# Altium integrated library TI Data Converters Digital to Analog Converter.IntLib: 1533 symbols (part 88 of 99)
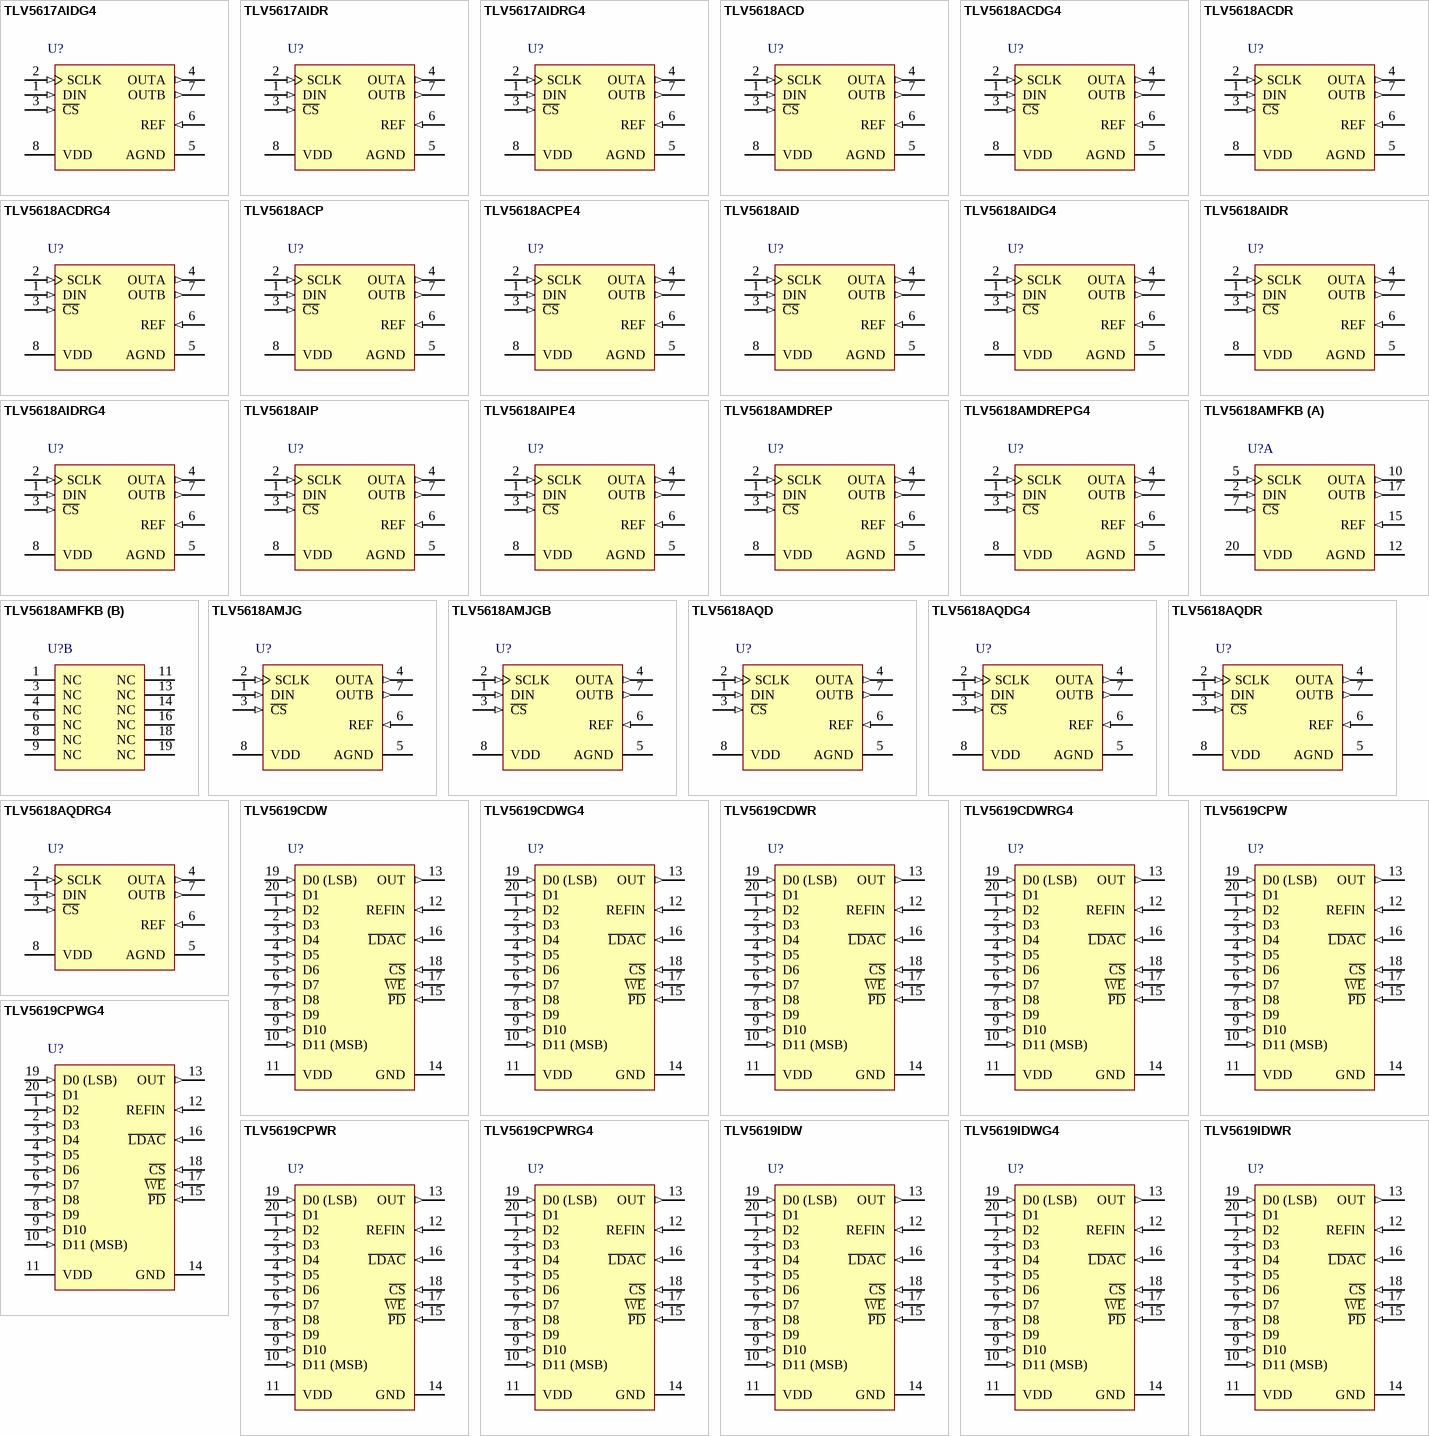
[diagram p160: symbols TLV5617AIDG4 to TLV5619IDWR]

## TLV5618AIDG4
designator U?
12-Bit, 2.5 us Dual DAC, Serial Input, Programmable Settling Time, -40 to 85 degC, 8-pin SOIC (D8), Green (RoHS & no Sb/Br); Manufacturer: Texas Instruments; PartNumber: TLV5618AIDG4; DAC Channels: 2; DNL(Max)(+/-LSB): 1; INL(Max)(+/-LSB): 4; Interface: Serial SPI; Power Consumption(Typ)(mW): 1.8; Resolution(Bits): 12; Settling Time(us): 3; SFDR(dB): 72; SNR(dB): 76; SubFamily: Precision DAC (=<10MSPS); DatasheetVersion: SLAS230H; PackageVersion: 4040047-3/M, 06/2011; PackageReference: D8; PackageDescription: 8-Pin Plastic Small Outline, Body 4.9 x 3.9 mm, Pitch 1.27 mm; Supplier 1: Digi-Key; Supplier Part Number 1: TLV5618AIDG4-ND; Supplier 2: Mouser; Supplier Part Number 2: 595-TLV5618AIDG4; Eco-Plan: Green (RoHS & no Sb/Br); Mounting Technology: Surface Mount; Code_JEDEC: MS-012; ComponentLink1Description: Manufacturer URL; ComponentLink1URL: http://www.ti.com/; ComponentLink2Description: Datasheet; ComponentLink2URL: http://www.ti.com/general/docs/lit/getliterature.tsp?genericPartNumber=TLV5618A&fileType=pdf; ComponentLink3Description: Package Specification; ComponentLink3URL: http://www.ti.com/litv/pdf/msoi002j
footprint TI-D8_N (SOIC, 8-Leads, Body 4.9x3.9mm, Pitch 1.27mm, IPC Medium Density)
footprint TI-D8_L (SOIC, 8-Leads, Body 4.9x3.9mm, Pitch 1.27mm, IPC High Density)
footprint TI-D8_M (SOIC, 8-Leads, Body 4.9x3.9mm, Pitch 1.27mm, IPC Low Density)
pins: 1 DIN (in) "Digital serial data input", 2 SCLK (in) "Digital serial clock input", 3 ~{CS} (in) "Chip select. Digital input active low, used to enable/disable inputs.", 4 OUTA (out) "DAC A analog voltage output", 5 AGND (power) "Ground", 6 REF (in) "Analog reference voltage input", 7 OUTB (out) "DAC B analog voltage output", 8 VDD (power) "Positive power supply"

## TLV5618AIDR
designator U?
12-Bit, 2.5 us Dual DAC, Serial Input, Programmable Settling Time, -40 to 85 degC, 8-pin SOIC (D8), Green (RoHS & no Sb/Br); Manufacturer: Texas Instruments; PartNumber: TLV5618AIDR; DAC Channels: 2; DNL(Max)(+/-LSB): 1; INL(Max)(+/-LSB): 4; Interface: Serial SPI; Power Consumption(Typ)(mW): 1.8; Resolution(Bits): 12; Settling Time(us): 3; SFDR(dB): 72; SNR(dB): 76; SubFamily: Precision DAC (=<10MSPS); DatasheetVersion: SLAS230H; PackageVersion: 4040047-3/M, 06/2011; PackageReference: D8; PackageDescription: 8-Pin Plastic Small Outline, Body 4.9 x 3.9 mm, Pitch 1.27 mm; Supplier 1: Digi-Key; Supplier Part Number 1: TLV5618AIDR-ND; Supplier 2: Newark; Supplier Part Number 2: 76C8919; Supplier 3: Mouser; Supplier Part Number 3: 595-TLV5618AIDR; Eco-Plan: Green (RoHS & no Sb/Br); Mounting Technology: Surface Mount; Code_JEDEC: MS-012; ComponentLink1Description: Manufacturer URL; ComponentLink1URL: http://www.ti.com/; ComponentLink2Description: Datasheet; ComponentLink2URL: http://www.ti.com/general/docs/lit/getliterature.tsp?genericPartNumber=TLV5618A&fileType=pdf; ComponentLink3Description: Package Specification; ComponentLink3URL: http://www.ti.com/litv/pdf/msoi002j
footprint TI-D8_N (SOIC, 8-Leads, Body 4.9x3.9mm, Pitch 1.27mm, IPC Medium Density)
footprint TI-D8_L (SOIC, 8-Leads, Body 4.9x3.9mm, Pitch 1.27mm, IPC High Density)
footprint TI-D8_M (SOIC, 8-Leads, Body 4.9x3.9mm, Pitch 1.27mm, IPC Low Density)
pins: 1 DIN (in) "Digital serial data input", 2 SCLK (in) "Digital serial clock input", 3 ~{CS} (in) "Chip select. Digital input active low, used to enable/disable inputs.", 4 OUTA (out) "DAC A analog voltage output", 5 AGND (power) "Ground", 6 REF (in) "Analog reference voltage input", 7 OUTB (out) "DAC B analog voltage output", 8 VDD (power) "Positive power supply"

## TLV5618AIDRG4
designator U?
12-Bit, 2.5 us Dual DAC, Serial Input, Programmable Settling Time, -40 to 85 degC, 8-pin SOIC (D8), Green (RoHS & no Sb/Br); Manufacturer: Texas Instruments; PartNumber: TLV5618AIDRG4; DAC Channels: 2; DNL(Max)(+/-LSB): 1; INL(Max)(+/-LSB): 4; Interface: Serial SPI; Power Consumption(Typ)(mW): 1.8; Resolution(Bits): 12; Settling Time(us): 3; SFDR(dB): 72; SNR(dB): 76; SubFamily: Precision DAC (=<10MSPS); DatasheetVersion: SLAS230H; PackageVersion: 4040047-3/M, 06/2011; PackageReference: D8; PackageDescription: 8-Pin Plastic Small Outline, Body 4.9 x 3.9 mm, Pitch 1.27 mm; Supplier 1: Digi-Key; Supplier Part Number 1: TLV5618AIDRG4-ND; Supplier 2: Mouser; Supplier Part Number 2: 595-TLV5618AIDRG4; Eco-Plan: Green (RoHS & no Sb/Br); Mounting Technology: Surface Mount; Code_JEDEC: MS-012; ComponentLink1Description: Manufacturer URL; ComponentLink1URL: http://www.ti.com/; ComponentLink2Description: Datasheet; ComponentLink2URL: http://www.ti.com/general/docs/lit/getliterature.tsp?genericPartNumber=TLV5618A&fileType=pdf; ComponentLink3Description: Package Specification; ComponentLink3URL: http://www.ti.com/litv/pdf/msoi002j
footprint TI-D8_N (SOIC, 8-Leads, Body 4.9x3.9mm, Pitch 1.27mm, IPC Medium Density)
footprint TI-D8_L (SOIC, 8-Leads, Body 4.9x3.9mm, Pitch 1.27mm, IPC High Density)
footprint TI-D8_M (SOIC, 8-Leads, Body 4.9x3.9mm, Pitch 1.27mm, IPC Low Density)
pins: 1 DIN (in) "Digital serial data input", 2 SCLK (in) "Digital serial clock input", 3 ~{CS} (in) "Chip select. Digital input active low, used to enable/disable inputs.", 4 OUTA (out) "DAC A analog voltage output", 5 AGND (power) "Ground", 6 REF (in) "Analog reference voltage input", 7 OUTB (out) "DAC B analog voltage output", 8 VDD (power) "Positive power supply"

## TLV5618AIP
designator U?
12-Bit, 2.5 us Dual DAC, Serial Input, Programmable Settling Time, -40 to 85 degC, 8-pin DIP (P8), Pb-Free (RoHS); Manufacturer: Texas Instruments; PartNumber: TLV5618AIP; DAC Channels: 2; DNL(Max)(+/-LSB): 1; INL(Max)(+/-LSB): 4; Interface: Serial SPI; Power Consumption(Typ)(mW): 1.8; Resolution(Bits): 12; Settling Time(us): 3; SFDR(dB): 72; SNR(dB): 76; SubFamily: Precision DAC (=<10MSPS); DatasheetVersion: SLAS230H; PackageVersion: 4040082/E, 04/2010; PackageReference: P8; PackageDescription: 8-Pin Plastic In-Line, Body 9.59 x 6.35 mm, Pitch 2.54 mm; Supplier 1: Digi-Key; Supplier Part Number 1: 296-10735-5-ND; Supplier 2: Farnell; Supplier Part Number 2: 8455678; Supplier 3: Newark; Supplier Part Number 3: 76C8920; Supplier 4: Mouser; Supplier Part Number 4: 595-TLV5618AIP; Eco-Plan: Pb-Free (RoHS); Mounting Technology: Through Hole; Code_JEDEC: MS-001; ComponentLink1Description: Manufacturer URL; ComponentLink1URL: http://www.ti.com/; ComponentLink2Description: Datasheet; ComponentLink2URL: http://www.ti.com/general/docs/lit/getliterature.tsp?genericPartNumber=TLV5618A&fileType=pdf; ComponentLink3Description: Package Specification; ComponentLink3URL: http://www.ti.com/litv/pdf/mpdi001b
footprint TI-P8 (DIP, 8-Leads, Body 9.59x6.35mm, Pitch 2.54mm)
pins: 1 DIN (in) "Digital serial data input", 2 SCLK (in) "Digital serial clock input", 3 ~{CS} (in) "Chip select. Digital input active low, used to enable/disable inputs.", 4 OUTA (out) "DAC A analog voltage output", 5 AGND (power) "Ground", 6 REF (in) "Analog reference voltage input", 7 OUTB (out) "DAC B analog voltage output", 8 VDD (power) "Positive power supply"

## TLV5618AIPE4
designator U?
12-Bit, 2.5 us Dual DAC, Serial Input, Programmable Settling Time, -40 to 85 degC, 8-pin DIP (P8), Pb-Free (RoHS); Manufacturer: Texas Instruments; PartNumber: TLV5618AIPE4; DAC Channels: 2; DNL(Max)(+/-LSB): 1; INL(Max)(+/-LSB): 4; Interface: Serial SPI; Power Consumption(Typ)(mW): 1.8; Resolution(Bits): 12; Settling Time(us): 3; SFDR(dB): 72; SNR(dB): 76; SubFamily: Precision DAC (=<10MSPS); DatasheetVersion: SLAS230H; PackageVersion: 4040082/E, 04/2010; PackageReference: P8; PackageDescription: 8-Pin Plastic In-Line, Body 9.59 x 6.35 mm, Pitch 2.54 mm; Supplier 1: Digi-Key; Supplier Part Number 1: TLV5618AIPE4-ND; Supplier 2: Mouser; Supplier Part Number 2: 595-TLV5618AIPE4; Eco-Plan: Pb-Free (RoHS); Mounting Technology: Through Hole; Code_JEDEC: MS-001; ComponentLink1Description: Manufacturer URL; ComponentLink1URL: http://www.ti.com/; ComponentLink2Description: Datasheet; ComponentLink2URL: http://www.ti.com/general/docs/lit/getliterature.tsp?genericPartNumber=TLV5618A&fileType=pdf; ComponentLink3Description: Package Specification; ComponentLink3URL: http://www.ti.com/litv/pdf/mpdi001b
footprint TI-P8 (DIP, 8-Leads, Body 9.59x6.35mm, Pitch 2.54mm)
pins: 1 DIN (in) "Digital serial data input", 2 SCLK (in) "Digital serial clock input", 3 ~{CS} (in) "Chip select. Digital input active low, used to enable/disable inputs.", 4 OUTA (out) "DAC A analog voltage output", 5 AGND (power) "Ground", 6 REF (in) "Analog reference voltage input", 7 OUTB (out) "DAC B analog voltage output", 8 VDD (power) "Positive power supply"

## TLV5618AMDREP
designator U?
Enhanced Product DAC with Power Down, -55 to 125 degC, 8-pin SOIC (D8), Green (RoHS & no Sb/Br); Manufacturer: Texas Instruments; PartNumber: TLV5618AMDREP; DAC Channels: 2; DNL(Max)(+/-LSB): 1; INL(Max)(+/-LSB): 4; Interface: Serial SPI; Power Consumption(Typ)(mW): 1.8; Resolution(Bits): 12; Settling Time(us): 3; SFDR(dB): 72; SNR(dB): 76; SubFamily: Precision DAC (=<10MSPS); DatasheetVersion: SGLS214; PackageVersion: 4040047-3/M, 06/2011; PackageReference: D8; PackageDescription: 8-Pin Plastic Small Outline, Body 4.9 x 3.9 mm, Pitch 1.27 mm; Supplier 1: Digi-Key; Supplier Part Number 1: 296-21259-2-ND; Supplier 2: Digi-Key; Supplier Part Number 2: 296-21259-1-ND; Supplier 3: Digi-Key; Supplier Part Number 3: 296-21259-6-ND; Supplier 4: Newark; Supplier Part Number 4: 46M0966; Supplier 5: Mouser; Supplier Part Number 5: 595-TLV5618AMDREP; Eco-Plan: Green (RoHS & no Sb/Br); Mounting Technology: Surface Mount; Code_JEDEC: MS-012; ComponentLink1Description: Manufacturer URL; ComponentLink1URL: http://www.ti.com/; ComponentLink2Description: Datasheet; ComponentLink2URL: http://www.ti.com/general/docs/lit/getliterature.tsp?genericPartNumber=TLV5618A-EP&fileType=pdf; ComponentLink3Description: Package Specification; ComponentLink3URL: http://www.ti.com/litv/pdf/msoi002j
footprint TI-D8_N (SOIC, 8-Leads, Body 4.9x3.9mm, Pitch 1.27mm, IPC Medium Density)
footprint TI-D8_L (SOIC, 8-Leads, Body 4.9x3.9mm, Pitch 1.27mm, IPC High Density)
footprint TI-D8_M (SOIC, 8-Leads, Body 4.9x3.9mm, Pitch 1.27mm, IPC Low Density)
pins: 1 DIN (in) "Digital serial data input", 2 SCLK (in) "Digital serial clock input", 3 ~{CS} (in) "Chip select. Digital input active low, used to enable/disable inputs.", 4 OUTA (out) "DAC A analog voltage output", 5 AGND (power) "Ground", 6 REF (in) "Analog reference voltage input", 7 OUTB (out) "DAC B analog voltage output", 8 VDD (power) "Positive power supply"

## TLV5618AMDREPG4
designator U?
Enhanced Product DAC with Power Down, -55 to 125 degC, 8-pin SOIC (D8), Green (RoHS & no Sb/Br); Manufacturer: Texas Instruments; PartNumber: TLV5618AMDREPG4; DAC Channels: 2; DNL(Max)(+/-LSB): 1; INL(Max)(+/-LSB): 4; Interface: Serial SPI; Power Consumption(Typ)(mW): 1.8; Resolution(Bits): 12; Settling Time(us): 3; SFDR(dB): 72; SNR(dB): 76; SubFamily: Precision DAC (=<10MSPS); DatasheetVersion: SGLS214; PackageVersion: 4040047-3/M, 06/2011; PackageReference: D8; PackageDescription: 8-Pin Plastic Small Outline, Body 4.9 x 3.9 mm, Pitch 1.27 mm; Supplier 1: Digi-Key; Supplier Part Number 1: TLV5618AMDREPG4-ND; Supplier 2: Mouser; Supplier Part Number 2: 595-TLV5618AMDREPG4; Eco-Plan: Green (RoHS & no Sb/Br); Mounting Technology: Surface Mount; Code_JEDEC: MS-012; ComponentLink1Description: Manufacturer URL; ComponentLink1URL: http://www.ti.com/; ComponentLink2Description: Datasheet; ComponentLink2URL: http://www.ti.com/general/docs/lit/getliterature.tsp?genericPartNumber=TLV5618A-EP&fileType=pdf; ComponentLink3Description: Package Specification; ComponentLink3URL: http://www.ti.com/litv/pdf/msoi002j
footprint TI-D8_N (SOIC, 8-Leads, Body 4.9x3.9mm, Pitch 1.27mm, IPC Medium Density)
footprint TI-D8_L (SOIC, 8-Leads, Body 4.9x3.9mm, Pitch 1.27mm, IPC High Density)
footprint TI-D8_M (SOIC, 8-Leads, Body 4.9x3.9mm, Pitch 1.27mm, IPC Low Density)
pins: 1 DIN (in) "Digital serial data input", 2 SCLK (in) "Digital serial clock input", 3 ~{CS} (in) "Chip select. Digital input active low, used to enable/disable inputs.", 4 OUTA (out) "DAC A analog voltage output", 5 AGND (power) "Ground", 6 REF (in) "Analog reference voltage input", 7 OUTB (out) "DAC B analog voltage output", 8 VDD (power) "Positive power supply"

## TLV5618AMFKB
designator U?
12-Bit, 2.5 us Dual DAC, Serial Input, Programmable Settling Time, -55 to 125 degC, 20-pin LCC (FK20); Manufacturer: Texas Instruments; PartNumber: TLV5618AMFKB; DAC Channels: 2; DNL(Max)(+/-LSB): 1; INL(Max)(+/-LSB): 4; Interface: Serial SPI; Power Consumption(Typ)(mW): 1.8; Resolution(Bits): 12; Settling Time(us): 3; SFDR(dB): 72; SNR(dB): 76; SubFamily: Precision DAC (=<10MSPS); DatasheetVersion: SLAS230H; PackageVersion: 4040140/D, 01/2011; PackageReference: FK20; PackageDescription: 20-Pin Ceramic, Metal Chip Carrier, Body 8.89 x 8.89 mm, Pitch 1.27 mm; Mounting Technology: Surface Mount; Code_JEDEC: MS-004; ComponentLink1Description: Manufacturer URL; ComponentLink1URL: http://www.ti.com/; ComponentLink2Description: Datasheet; ComponentLink2URL: http://www.ti.com/general/docs/lit/getliterature.tsp?genericPartNumber=TLV5618AM&fileType=pdf; ComponentLink3Description: Package Specification; ComponentLink3URL: http://www.ti.com/litv/pdf/mlcc006d
footprint TI-FK20_N (Leadless Chip Carrier, 20-Leads, Body 8.9x8.9mm, Pitch 1.27mm, IPC Medium Density)
footprint TI-FK20_L (Leadless Chip Carrier, 20-Leads, Body 8.9x8.9mm, Pitch 1.27mm, IPC High Density)
footprint TI-FK20_M (Leadless Chip Carrier, 20-Leads, Body 8.9x8.9mm, Pitch 1.27mm, IPC Low Density)
part A pins: 2 DIN (in) "Digital serial data input", 5 SCLK (in) "Digital serial clock input", 7 ~{CS} (in) "Chip select. Digital input active low, used to enable/disable inputs", 10 OUTA (out) "DAC A analog voltage output", 12 AGND (power) "Ground", 15 REF (in) "Analog reference voltage input", 17 OUTB (out) "DAC B analog voltage output", 20 VDD (power) "Positive power supply"
part B pins: 1 NC, 3 NC, 4 NC, 6 NC, 8 NC, 9 NC, 11 NC, 13 NC, 14 NC, 16 NC, 18 NC, 19 NC

## TLV5618AMJG
designator U?
12-Bit, 2.5 us Dual DAC, Serial Input, Programmable Settling Time, -55 to 125 degC, 8-pin DIP (JG8); Manufacturer: Texas Instruments; PartNumber: TLV5618AMJG; DAC Channels: 2; DNL(Max)(+/-LSB): 1; INL(Max)(+/-LSB): 4; Interface: Serial SPI; Power Consumption(Typ)(mW): 1.8; Resolution(Bits): 12; Settling Time(us): 3; SFDR(dB): 72; SNR(dB): 76; SubFamily: Precision DAC (=<10MSPS); DatasheetVersion: SLAS230H; PackageVersion: 4040107/C, 08/1996; PackageReference: JG8; PackageDescription: 8-Pin Ceramic, Glass In-Line, Body 9.58 x 6.665 mm, Pitch 2.54 mm; Mounting Technology: Through Hole; ComponentLink1Description: Manufacturer URL; ComponentLink1URL: http://www.ti.com/; ComponentLink2Description: Datasheet; ComponentLink2URL: http://www.ti.com/general/docs/lit/getliterature.tsp?genericPartNumber=TLV5618AM&fileType=pdf; ComponentLink3Description: Package Specification; ComponentLink3URL: http://www.ti.com/litv/pdf/mcer001a
footprint TI-JG8 (DIP, 8-Leads, Body 10.15x7.1mm, Pitch 2.54mm)
pins: 1 DIN (in) "Digital serial data input", 2 SCLK (in) "Digital serial clock input", 3 ~{CS} (in) "Chip select. Digital input active low, used to enable/disable inputs.", 4 OUTA (out) "DAC A analog voltage output", 5 AGND (power) "Ground", 6 REF (in) "Analog reference voltage input", 7 OUTB (out) "DAC B analog voltage output", 8 VDD (power) "Positive power supply"

## TLV5618AMJGB
designator U?
12-Bit, 2.5 us Dual DAC, Serial Input, Programmable Settling Time, -55 to 125 degC, 8-pin DIP (JG8); Manufacturer: Texas Instruments; PartNumber: TLV5618AMJGB; DAC Channels: 2; DNL(Max)(+/-LSB): 1; INL(Max)(+/-LSB): 4; Interface: Serial SPI; Power Consumption(Typ)(mW): 1.8; Resolution(Bits): 12; Settling Time(us): 3; SFDR(dB): 72; SNR(dB): 76; SubFamily: Precision DAC (=<10MSPS); DatasheetVersion: SLAS230H; PackageVersion: 4040107/C, 08/1996; PackageReference: JG8; PackageDescription: 8-Pin Ceramic, Glass In-Line, Body 9.58 x 6.665 mm, Pitch 2.54 mm; Mounting Technology: Through Hole; ComponentLink1Description: Manufacturer URL; ComponentLink1URL: http://www.ti.com/; ComponentLink2Description: Datasheet; ComponentLink2URL: http://www.ti.com/general/docs/lit/getliterature.tsp?genericPartNumber=TLV5618AM&fileType=pdf; ComponentLink3Description: Package Specification; ComponentLink3URL: http://www.ti.com/litv/pdf/mcer001a
footprint TI-JG8 (DIP, 8-Leads, Body 10.15x7.1mm, Pitch 2.54mm)
pins: 1 DIN (in) "Digital serial data input", 2 SCLK (in) "Digital serial clock input", 3 ~{CS} (in) "Chip select. Digital input active low, used to enable/disable inputs.", 4 OUTA (out) "DAC A analog voltage output", 5 AGND (power) "Ground", 6 REF (in) "Analog reference voltage input", 7 OUTB (out) "DAC B analog voltage output", 8 VDD (power) "Positive power supply"

## TLV5618AQD
designator U?
12-Bit, 2.5 us Dual DAC, Serial Input, Programmable Settling Time, -40 to 125 degC, 8-pin SOIC (D8), Green (RoHS & no Sb/Br); Manufacturer: Texas Instruments; PartNumber: TLV5618AQD; DAC Channels: 2; DNL(Max)(+/-LSB): 1; INL(Max)(+/-LSB): 4; Interface: Serial SPI; Power Consumption(Typ)(mW): 1.8; Resolution(Bits): 12; Settling Time(us): 3; SFDR(dB): 72; SNR(dB): 76; SubFamily: Precision DAC (=<10MSPS); DatasheetVersion: SLAS230H; PackageVersion: 4040047-3/M, 06/2011; PackageReference: D8; PackageDescription: 8-Pin Plastic Small Outline, Body 4.9 x 3.9 mm, Pitch 1.27 mm; Supplier 1: Digi-Key; Supplier Part Number 1: 296-2304-5-ND; Supplier 2: Farnell; Supplier Part Number 2: 1534702; Supplier 3: Newark; Supplier Part Number 3: 76C8921; Supplier 4: Mouser; Supplier Part Number 4: 595-TLV5618AQD; Eco-Plan: Green (RoHS & no Sb/Br); Mounting Technology: Surface Mount; Code_JEDEC: MS-012; ComponentLink1Description: Manufacturer URL; ComponentLink1URL: http://www.ti.com/; ComponentLink2Description: Datasheet; ComponentLink2URL: http://www.ti.com/general/docs/lit/getliterature.tsp?genericPartNumber=TLV5618A&fileType=pdf; ComponentLink3Description: Package Specification; ComponentLink3URL: http://www.ti.com/litv/pdf/msoi002j
footprint TI-D8_N (SOIC, 8-Leads, Body 4.9x3.9mm, Pitch 1.27mm, IPC Medium Density)
footprint TI-D8_L (SOIC, 8-Leads, Body 4.9x3.9mm, Pitch 1.27mm, IPC High Density)
footprint TI-D8_M (SOIC, 8-Leads, Body 4.9x3.9mm, Pitch 1.27mm, IPC Low Density)
pins: 1 DIN (in) "Digital serial data input", 2 SCLK (in) "Digital serial clock input", 3 ~{CS} (in) "Chip select. Digital input active low, used to enable/disable inputs.", 4 OUTA (out) "DAC A analog voltage output", 5 AGND (power) "Ground", 6 REF (in) "Analog reference voltage input", 7 OUTB (out) "DAC B analog voltage output", 8 VDD (power) "Positive power supply"

## TLV5618AQDG4
designator U?
12-Bit, 2.5 us Dual DAC, Serial Input, Programmable Settling Time, -40 to 125 degC, 8-pin SOIC (D8), Green (RoHS & no Sb/Br); Manufacturer: Texas Instruments; PartNumber: TLV5618AQDG4; DAC Channels: 2; DNL(Max)(+/-LSB): 1; INL(Max)(+/-LSB): 4; Interface: Serial SPI; Power Consumption(Typ)(mW): 1.8; Resolution(Bits): 12; Settling Time(us): 3; SFDR(dB): 72; SNR(dB): 76; SubFamily: Precision DAC (=<10MSPS); DatasheetVersion: SLAS230H; PackageVersion: 4040047-3/M, 06/2011; PackageReference: D8; PackageDescription: 8-Pin Plastic Small Outline, Body 4.9 x 3.9 mm, Pitch 1.27 mm; Supplier 1: Digi-Key; Supplier Part Number 1: 296-34494-5-ND; Supplier 2: Mouser; Supplier Part Number 2: 595-TLV5618AQDG4; Eco-Plan: Green (RoHS & no Sb/Br); Mounting Technology: Surface Mount; Code_JEDEC: MS-012; ComponentLink1Description: Manufacturer URL; ComponentLink1URL: http://www.ti.com/; ComponentLink2Description: Datasheet; ComponentLink2URL: http://www.ti.com/general/docs/lit/getliterature.tsp?genericPartNumber=TLV5618A&fileType=pdf; ComponentLink3Description: Package Specification; ComponentLink3URL: http://www.ti.com/litv/pdf/msoi002j
footprint TI-D8_N (SOIC, 8-Leads, Body 4.9x3.9mm, Pitch 1.27mm, IPC Medium Density)
footprint TI-D8_L (SOIC, 8-Leads, Body 4.9x3.9mm, Pitch 1.27mm, IPC High Density)
footprint TI-D8_M (SOIC, 8-Leads, Body 4.9x3.9mm, Pitch 1.27mm, IPC Low Density)
pins: 1 DIN (in) "Digital serial data input", 2 SCLK (in) "Digital serial clock input", 3 ~{CS} (in) "Chip select. Digital input active low, used to enable/disable inputs.", 4 OUTA (out) "DAC A analog voltage output", 5 AGND (power) "Ground", 6 REF (in) "Analog reference voltage input", 7 OUTB (out) "DAC B analog voltage output", 8 VDD (power) "Positive power supply"

## TLV5618AQDR
designator U?
12-Bit, 2.5 us Dual DAC, Serial Input, Programmable Settling Time, -40 to 125 degC, 8-pin SOIC (D8), Green (RoHS & no Sb/Br); Manufacturer: Texas Instruments; PartNumber: TLV5618AQDR; DAC Channels: 2; DNL(Max)(+/-LSB): 1; INL(Max)(+/-LSB): 4; Interface: Serial SPI; Power Consumption(Typ)(mW): 1.8; Resolution(Bits): 12; Settling Time(us): 3; SFDR(dB): 72; SNR(dB): 76; SubFamily: Precision DAC (=<10MSPS); DatasheetVersion: SLAS230H; PackageVersion: 4040047-3/M, 06/2011; PackageReference: D8; PackageDescription: 8-Pin Plastic Small Outline, Body 4.9 x 3.9 mm, Pitch 1.27 mm; Supplier 1: Digi-Key; Supplier Part Number 1: TLV5618AQDR-ND; Supplier 2: Mouser; Supplier Part Number 2: 595-TLV5618AQDR; Eco-Plan: Green (RoHS & no Sb/Br); Mounting Technology: Surface Mount; Code_JEDEC: MS-012; ComponentLink1Description: Manufacturer URL; ComponentLink1URL: http://www.ti.com/; ComponentLink2Description: Datasheet; ComponentLink2URL: http://www.ti.com/general/docs/lit/getliterature.tsp?genericPartNumber=TLV5618A&fileType=pdf; ComponentLink3Description: Package Specification; ComponentLink3URL: http://www.ti.com/litv/pdf/msoi002j
footprint TI-D8_N (SOIC, 8-Leads, Body 4.9x3.9mm, Pitch 1.27mm, IPC Medium Density)
footprint TI-D8_L (SOIC, 8-Leads, Body 4.9x3.9mm, Pitch 1.27mm, IPC High Density)
footprint TI-D8_M (SOIC, 8-Leads, Body 4.9x3.9mm, Pitch 1.27mm, IPC Low Density)
pins: 1 DIN (in) "Digital serial data input", 2 SCLK (in) "Digital serial clock input", 3 ~{CS} (in) "Chip select. Digital input active low, used to enable/disable inputs.", 4 OUTA (out) "DAC A analog voltage output", 5 AGND (power) "Ground", 6 REF (in) "Analog reference voltage input", 7 OUTB (out) "DAC B analog voltage output", 8 VDD (power) "Positive power supply"

## TLV5618AQDRG4
designator U?
12-Bit, 2.5 us Dual DAC, Serial Input, Programmable Settling Time, -40 to 125 degC, 8-pin SOIC (D8), Green (RoHS & no Sb/Br); Manufacturer: Texas Instruments; PartNumber: TLV5618AQDRG4; DAC Channels: 2; DNL(Max)(+/-LSB): 1; INL(Max)(+/-LSB): 4; Interface: Serial SPI; Power Consumption(Typ)(mW): 1.8; Resolution(Bits): 12; Settling Time(us): 3; SFDR(dB): 72; SNR(dB): 76; SubFamily: Precision DAC (=<10MSPS); DatasheetVersion: SLAS230H; PackageVersion: 4040047-3/M, 06/2011; PackageReference: D8; PackageDescription: 8-Pin Plastic Small Outline, Body 4.9 x 3.9 mm, Pitch 1.27 mm; Supplier 1: Digi-Key; Supplier Part Number 1: TLV5618AQDRG4-ND; Supplier 2: Mouser; Supplier Part Number 2: 595-TLV5618AQDRG4; Eco-Plan: Green (RoHS & no Sb/Br); Mounting Technology: Surface Mount; Code_JEDEC: MS-012; ComponentLink1Description: Manufacturer URL; ComponentLink1URL: http://www.ti.com/; ComponentLink2Description: Datasheet; ComponentLink2URL: http://www.ti.com/general/docs/lit/getliterature.tsp?genericPartNumber=TLV5618A&fileType=pdf; ComponentLink3Description: Package Specification; ComponentLink3URL: http://www.ti.com/litv/pdf/msoi002j
footprint TI-D8_N (SOIC, 8-Leads, Body 4.9x3.9mm, Pitch 1.27mm, IPC Medium Density)
footprint TI-D8_L (SOIC, 8-Leads, Body 4.9x3.9mm, Pitch 1.27mm, IPC High Density)
footprint TI-D8_M (SOIC, 8-Leads, Body 4.9x3.9mm, Pitch 1.27mm, IPC Low Density)
pins: 1 DIN (in) "Digital serial data input", 2 SCLK (in) "Digital serial clock input", 3 ~{CS} (in) "Chip select. Digital input active low, used to enable/disable inputs.", 4 OUTA (out) "DAC A analog voltage output", 5 AGND (power) "Ground", 6 REF (in) "Analog reference voltage input", 7 OUTB (out) "DAC B analog voltage output", 8 VDD (power) "Positive power supply"

## TLV5619CDW
designator U?
12-Bit, Single Channel DAC, Parallel, Voltage Out, Low Power, Asynchronous Update, 0 to 70 degC, 20-pin SOIC (DW20), Green (RoHS & no Sb/Br); Manufacturer: Texas Instruments; PartNumber: TLV5619CDW; DAC Channels: 1; INL(Max)(+/-LSB): 4; Power Consumption(Typ)(mW): 4.3; Resolution(Bits): 12; SFDR(dB): 72; SNR(dB): 78; SubFamily: Precision DAC (=<10MSPS); DatasheetVersion: SLAS172F; PackageVersion: 4040000-4/G, 01/2011; PackageReference: DW20; PackageDescription: 20-Pin Plastic Small Outline, Body 12.8 x 7.5 mm, Pitch 1.27 mm; Supplier 1: Digi-Key; Supplier Part Number 1: 296-1924-5-ND; Supplier 2: Newark; Supplier Part Number 2: 83F9165; Supplier 3: Mouser; Supplier Part Number 3: 595-TLV5619CDW; DNL(Max)(+/-LSB): 1; Eco-Plan: Green (RoHS & no Sb/Br); Interface: Parallel; Settling Time(us): 1; Mounting Technology: Surface Mount; Code_JEDEC: MO-013; ComponentLink1Description: Manufacturer URL; ComponentLink1URL: http://www.ti.com/; ComponentLink2Description: Datasheet; ComponentLink2URL: http://www.ti.com/general/docs/lit/getliterature.tsp?genericPartNumber=TLV5619&fileType=pdf; ComponentLink3Description: Package Specification; ComponentLink3URL: http://www.ti.com/lit/ml/mpds173a/mpds173a.pdf
footprint TI-DW20_N (SOIC, 20-Leads, Body 12.8x7.5mm, Pitch 1.27mm, IPC Medium Density)
footprint TI-DW20_L (SOIC, 20-Leads, Body 12.8x7.5mm, Pitch 1.27mm, IPC High Density)
footprint TI-DW20_M (SOIC, 20-Leads, Body 12.8x7.5mm, Pitch 1.27mm, IPC Low Density)
pins: 1 D2 (in) "Parallel data input", 2 D3 (in) "Parallel data input", 3 D4 (in) "Parallel data input", 4 D5 (in) "Parallel data input", 5 D6 (in) "Parallel data input", 6 D7 (in) "Parallel data input", 7 D8 (in) "Parallel data input", 8 D9 (in) "Parallel data input", 9 D10 (in) "Parallel data input", 10 D11 (MSB) (in) "Parallel data input", 11 VDD (power) "Positive power supply", 12 REFIN (in) "Voltage reference input", 13 OUT (out) "Analog output", 14 GND (power) "Ground", 15 ~{PD} (in) "When low, disables all buffer amplifier voltages to reduce supply current", 16 ~{LDAC} (in) "Load DAC", 17 ~{WE} (in) "Write enable", 18 ~{CS} (in) "Chip select", 19 D0 (LSB) (in) "Parallel data input", 20 D1 (in) "Parallel data input"

## TLV5619CDWG4
designator U?
12-Bit, Single Channel DAC, Parallel, Voltage Out, Low Power, Asynchronous Update, 0 to 70 degC, 20-pin SOIC (DW20), Green (RoHS & no Sb/Br); Manufacturer: Texas Instruments; PartNumber: TLV5619CDWG4; DAC Channels: 1; INL(Max)(+/-LSB): 4; Power Consumption(Typ)(mW): 4.3; Resolution(Bits): 12; SFDR(dB): 72; SNR(dB): 78; SubFamily: Precision DAC (=<10MSPS); DatasheetVersion: SLAS172F; PackageVersion: 4040000-4/G, 01/2011; PackageReference: DW20; PackageDescription: 20-Pin Plastic Small Outline, Body 12.8 x 7.5 mm, Pitch 1.27 mm; Supplier 1: Digi-Key; Supplier Part Number 1: TLV5619CDWG4-ND; Supplier 2: Mouser; Supplier Part Number 2: 595-TLV5619CDWG4; DNL(Max)(+/-LSB): 1; Eco-Plan: Green (RoHS & no Sb/Br); Interface: Parallel; Settling Time(us): 1; Mounting Technology: Surface Mount; Code_JEDEC: MO-013; ComponentLink1Description: Manufacturer URL; ComponentLink1URL: http://www.ti.com/; ComponentLink2Description: Datasheet; ComponentLink2URL: http://www.ti.com/general/docs/lit/getliterature.tsp?genericPartNumber=TLV5619&fileType=pdf; ComponentLink3Description: Package Specification; ComponentLink3URL: http://www.ti.com/lit/ml/mpds173a/mpds173a.pdf
footprint TI-DW20_N (SOIC, 20-Leads, Body 12.8x7.5mm, Pitch 1.27mm, IPC Medium Density)
footprint TI-DW20_L (SOIC, 20-Leads, Body 12.8x7.5mm, Pitch 1.27mm, IPC High Density)
footprint TI-DW20_M (SOIC, 20-Leads, Body 12.8x7.5mm, Pitch 1.27mm, IPC Low Density)
pins: 1 D2 (in) "Parallel data input", 2 D3 (in) "Parallel data input", 3 D4 (in) "Parallel data input", 4 D5 (in) "Parallel data input", 5 D6 (in) "Parallel data input", 6 D7 (in) "Parallel data input", 7 D8 (in) "Parallel data input", 8 D9 (in) "Parallel data input", 9 D10 (in) "Parallel data input", 10 D11 (MSB) (in) "Parallel data input", 11 VDD (power) "Positive power supply", 12 REFIN (in) "Voltage reference input", 13 OUT (out) "Analog output", 14 GND (power) "Ground", 15 ~{PD} (in) "When low, disables all buffer amplifier voltages to reduce supply current", 16 ~{LDAC} (in) "Load DAC", 17 ~{WE} (in) "Write enable", 18 ~{CS} (in) "Chip select", 19 D0 (LSB) (in) "Parallel data input", 20 D1 (in) "Parallel data input"

## TLV5619CDWR
designator U?
12-Bit, Single Channel DAC, Parallel, Voltage Out, Low Power, Asynchronous Update, 0 to 70 degC, 20-pin SOIC (DW20), Green (RoHS & no Sb/Br); Manufacturer: Texas Instruments; PartNumber: TLV5619CDWR; DAC Channels: 1; INL(Max)(+/-LSB): 4; Power Consumption(Typ)(mW): 4.3; Resolution(Bits): 12; SFDR(dB): 72; SNR(dB): 78; SubFamily: Precision DAC (=<10MSPS); DatasheetVersion: SLAS172F; PackageVersion: 4040000-4/G, 01/2011; PackageReference: DW20; PackageDescription: 20-Pin Plastic Small Outline, Body 12.8 x 7.5 mm, Pitch 1.27 mm; Supplier 1: Digi-Key; Supplier Part Number 1: TLV5619CDWR-ND; Supplier 2: Newark; Supplier Part Number 2: 76C8924; Supplier 3: Mouser; Supplier Part Number 3: 595-TLV5619CDWR; DNL(Max)(+/-LSB): 1; Eco-Plan: Green (RoHS & no Sb/Br); Interface: Parallel; Settling Time(us): 1; Mounting Technology: Surface Mount; Code_JEDEC: MO-013; ComponentLink1Description: Manufacturer URL; ComponentLink1URL: http://www.ti.com/; ComponentLink2Description: Datasheet; ComponentLink2URL: http://www.ti.com/general/docs/lit/getliterature.tsp?genericPartNumber=TLV5619&fileType=pdf; ComponentLink3Description: Package Specification; ComponentLink3URL: http://www.ti.com/lit/ml/mpds173a/mpds173a.pdf
footprint TI-DW20_N (SOIC, 20-Leads, Body 12.8x7.5mm, Pitch 1.27mm, IPC Medium Density)
footprint TI-DW20_L (SOIC, 20-Leads, Body 12.8x7.5mm, Pitch 1.27mm, IPC High Density)
footprint TI-DW20_M (SOIC, 20-Leads, Body 12.8x7.5mm, Pitch 1.27mm, IPC Low Density)
pins: 1 D2 (in) "Parallel data input", 2 D3 (in) "Parallel data input", 3 D4 (in) "Parallel data input", 4 D5 (in) "Parallel data input", 5 D6 (in) "Parallel data input", 6 D7 (in) "Parallel data input", 7 D8 (in) "Parallel data input", 8 D9 (in) "Parallel data input", 9 D10 (in) "Parallel data input", 10 D11 (MSB) (in) "Parallel data input", 11 VDD (power) "Positive power supply", 12 REFIN (in) "Voltage reference input", 13 OUT (out) "Analog output", 14 GND (power) "Ground", 15 ~{PD} (in) "When low, disables all buffer amplifier voltages to reduce supply current", 16 ~{LDAC} (in) "Load DAC", 17 ~{WE} (in) "Write enable", 18 ~{CS} (in) "Chip select", 19 D0 (LSB) (in) "Parallel data input", 20 D1 (in) "Parallel data input"

## TLV5619CDWRG4
designator U?
12-Bit, Single Channel DAC, Parallel, Voltage Out, Low Power, Asynchronous Update, 0 to 70 degC, 20-pin SOIC (DW20), Green (RoHS & no Sb/Br); Manufacturer: Texas Instruments; PartNumber: TLV5619CDWRG4; DAC Channels: 1; INL(Max)(+/-LSB): 4; Power Consumption(Typ)(mW): 4.3; Resolution(Bits): 12; SFDR(dB): 72; SNR(dB): 78; SubFamily: Precision DAC (=<10MSPS); DatasheetVersion: SLAS172F; PackageVersion: 4040000-4/G, 01/2011; PackageReference: DW20; PackageDescription: 20-Pin Plastic Small Outline, Body 12.8 x 7.5 mm, Pitch 1.27 mm; Supplier 1: Digi-Key; Supplier Part Number 1: TLV5619CDWRG4-ND; Supplier 2: Mouser; Supplier Part Number 2: 595-TLV5619CDWRG4; DNL(Max)(+/-LSB): 1; Eco-Plan: Green (RoHS & no Sb/Br); Interface: Parallel; Settling Time(us): 1; Mounting Technology: Surface Mount; Code_JEDEC: MO-013; ComponentLink1Description: Manufacturer URL; ComponentLink1URL: http://www.ti.com/; ComponentLink2Description: Datasheet; ComponentLink2URL: http://www.ti.com/general/docs/lit/getliterature.tsp?genericPartNumber=TLV5619&fileType=pdf; ComponentLink3Description: Package Specification; ComponentLink3URL: http://www.ti.com/lit/ml/mpds173a/mpds173a.pdf
footprint TI-DW20_N (SOIC, 20-Leads, Body 12.8x7.5mm, Pitch 1.27mm, IPC Medium Density)
footprint TI-DW20_L (SOIC, 20-Leads, Body 12.8x7.5mm, Pitch 1.27mm, IPC High Density)
footprint TI-DW20_M (SOIC, 20-Leads, Body 12.8x7.5mm, Pitch 1.27mm, IPC Low Density)
pins: 1 D2 (in) "Parallel data input", 2 D3 (in) "Parallel data input", 3 D4 (in) "Parallel data input", 4 D5 (in) "Parallel data input", 5 D6 (in) "Parallel data input", 6 D7 (in) "Parallel data input", 7 D8 (in) "Parallel data input", 8 D9 (in) "Parallel data input", 9 D10 (in) "Parallel data input", 10 D11 (MSB) (in) "Parallel data input", 11 VDD (power) "Positive power supply", 12 REFIN (in) "Voltage reference input", 13 OUT (out) "Analog output", 14 GND (power) "Ground", 15 ~{PD} (in) "When low, disables all buffer amplifier voltages to reduce supply current", 16 ~{LDAC} (in) "Load DAC", 17 ~{WE} (in) "Write enable", 18 ~{CS} (in) "Chip select", 19 D0 (LSB) (in) "Parallel data input", 20 D1 (in) "Parallel data input"

## TLV5619CPW
designator U?
12-Bit, Single Channel DAC, Parallel, Voltage Out, Low Power, Asynchronous Update, 0 to 70 degC, 20-pin SOP (PW20), Green (RoHS & no Sb/Br); Manufacturer: Texas Instruments; PartNumber: TLV5619CPW; DAC Channels: 1; INL(Max)(+/-LSB): 4; Power Consumption(Typ)(mW): 4.3; Resolution(Bits): 12; SFDR(dB): 72; SNR(dB): 78; SubFamily: Precision DAC (=<10MSPS); DatasheetVersion: SLAS172F; PackageVersion: 4040064-5/G, 02/2011; PackageReference: PW20; PackageDescription: 20-Pin Plastic Small Outline, Body 6.5 x 4.4 mm, Pitch 0.65 mm; Supplier 1: Digi-Key; Supplier Part Number 1: 296-1925-5-ND; Supplier 2: Mouser; Supplier Part Number 2: 595-TLV5619CPW; DNL(Max)(+/-LSB): 1; Eco-Plan: Green (RoHS & no Sb/Br); Interface: Parallel; Settling Time(us): 1; Mounting Technology: Surface Mount; Code_JEDEC: MO-153; ComponentLink1Description: Manufacturer URL; ComponentLink1URL: http://www.ti.com/; ComponentLink2Description: Datasheet; ComponentLink2URL: http://www.ti.com/general/docs/lit/getliterature.tsp?genericPartNumber=TLV5619&fileType=pdf; ComponentLink3Description: Package Specification; ComponentLink3URL: http://www.ti.com.cn/cn/lit/ml/mpds362/mpds362.pdf
footprint TI-PW20_N (SOP, 20-Leads, Body 6.5x4.4mm, Pitch 0.65mm, IPC Medium Density)
footprint TI-PW20_L (SOP, 20-Leads, Body 6.5x4.4mm, Pitch 0.65mm, IPC High Density)
footprint TI-PW20_M (SOP, 20-Leads, Body 6.5x4.4mm, Pitch 0.65mm, IPC Low Density)
pins: 1 D2 (in) "Parallel data input", 2 D3 (in) "Parallel data input", 3 D4 (in) "Parallel data input", 4 D5 (in) "Parallel data input", 5 D6 (in) "Parallel data input", 6 D7 (in) "Parallel data input", 7 D8 (in) "Parallel data input", 8 D9 (in) "Parallel data input", 9 D10 (in) "Parallel data input", 10 D11 (MSB) (in) "Parallel data input", 11 VDD (power) "Positive power supply", 12 REFIN (in) "Voltage reference input", 13 OUT (out) "Analog output", 14 GND (power) "Ground", 15 ~{PD} (in) "When low, disables all buffer amplifier voltages to reduce supply current", 16 ~{LDAC} (in) "Load DAC", 17 ~{WE} (in) "Write enable", 18 ~{CS} (in) "Chip select", 19 D0 (LSB) (in) "Parallel data input", 20 D1 (in) "Parallel data input"

## TLV5619CPWG4
designator U?
12-Bit, Single Channel DAC, Parallel, Voltage Out, Low Power, Asynchronous Update, 0 to 70 degC, 20-pin SOP (PW20), Green (RoHS & no Sb/Br); Manufacturer: Texas Instruments; PartNumber: TLV5619CPWG4; DAC Channels: 1; INL(Max)(+/-LSB): 4; Power Consumption(Typ)(mW): 4.3; Resolution(Bits): 12; SFDR(dB): 72; SNR(dB): 78; SubFamily: Precision DAC (=<10MSPS); DatasheetVersion: SLAS172F; PackageVersion: 4040064-5/G, 02/2011; PackageReference: PW20; PackageDescription: 20-Pin Plastic Small Outline, Body 6.5 x 4.4 mm, Pitch 0.65 mm; Supplier 1: Digi-Key; Supplier Part Number 1: TLV5619CPWG4-ND; Supplier 2: Mouser; Supplier Part Number 2: 595-TLV5619CPWG4; DNL(Max)(+/-LSB): 1; Eco-Plan: Green (RoHS & no Sb/Br); Interface: Parallel; Settling Time(us): 1; Mounting Technology: Surface Mount; Code_JEDEC: MO-153; ComponentLink1Description: Manufacturer URL; ComponentLink1URL: http://www.ti.com/; ComponentLink2Description: Datasheet; ComponentLink2URL: http://www.ti.com/general/docs/lit/getliterature.tsp?genericPartNumber=TLV5619&fileType=pdf; ComponentLink3Description: Package Specification; ComponentLink3URL: http://www.ti.com.cn/cn/lit/ml/mpds362/mpds362.pdf
footprint TI-PW20_N (SOP, 20-Leads, Body 6.5x4.4mm, Pitch 0.65mm, IPC Medium Density)
footprint TI-PW20_L (SOP, 20-Leads, Body 6.5x4.4mm, Pitch 0.65mm, IPC High Density)
footprint TI-PW20_M (SOP, 20-Leads, Body 6.5x4.4mm, Pitch 0.65mm, IPC Low Density)
pins: 1 D2 (in) "Parallel data input", 2 D3 (in) "Parallel data input", 3 D4 (in) "Parallel data input", 4 D5 (in) "Parallel data input", 5 D6 (in) "Parallel data input", 6 D7 (in) "Parallel data input", 7 D8 (in) "Parallel data input", 8 D9 (in) "Parallel data input", 9 D10 (in) "Parallel data input", 10 D11 (MSB) (in) "Parallel data input", 11 VDD (power) "Positive power supply", 12 REFIN (in) "Voltage reference input", 13 OUT (out) "Analog output", 14 GND (power) "Ground", 15 ~{PD} (in) "When low, disables all buffer amplifier voltages to reduce supply current", 16 ~{LDAC} (in) "Load DAC", 17 ~{WE} (in) "Write enable", 18 ~{CS} (in) "Chip select", 19 D0 (LSB) (in) "Parallel data input", 20 D1 (in) "Parallel data input"

## TLV5619CPWR
designator U?
12-Bit, Single Channel DAC, Parallel, Voltage Out, Low Power, Asynchronous Update, 0 to 70 degC, 20-pin SOP (PW20), Green (RoHS & no Sb/Br); Manufacturer: Texas Instruments; PartNumber: TLV5619CPWR; DAC Channels: 1; INL(Max)(+/-LSB): 4; Power Consumption(Typ)(mW): 4.3; Resolution(Bits): 12; SFDR(dB): 72; SNR(dB): 78; SubFamily: Precision DAC (=<10MSPS); DatasheetVersion: SLAS172F; PackageVersion: 4040064-5/G, 02/2011; PackageReference: PW20; PackageDescription: 20-Pin Plastic Small Outline, Body 6.5 x 4.4 mm, Pitch 0.65 mm; Supplier 1: Digi-Key; Supplier Part Number 1: TLV5619CPWR-ND; Supplier 2: Mouser; Supplier Part Number 2: 595-TLV5619CPWR; DNL(Max)(+/-LSB): 1; Eco-Plan: Green (RoHS & no Sb/Br); Interface: Parallel; Settling Time(us): 1; Mounting Technology: Surface Mount; Code_JEDEC: MO-153; ComponentLink1Description: Manufacturer URL; ComponentLink1URL: http://www.ti.com/; ComponentLink2Description: Datasheet; ComponentLink2URL: http://www.ti.com/general/docs/lit/getliterature.tsp?genericPartNumber=TLV5619&fileType=pdf; ComponentLink3Description: Package Specification; ComponentLink3URL: http://www.ti.com.cn/cn/lit/ml/mpds362/mpds362.pdf
footprint TI-PW20_N (SOP, 20-Leads, Body 6.5x4.4mm, Pitch 0.65mm, IPC Medium Density)
footprint TI-PW20_L (SOP, 20-Leads, Body 6.5x4.4mm, Pitch 0.65mm, IPC High Density)
footprint TI-PW20_M (SOP, 20-Leads, Body 6.5x4.4mm, Pitch 0.65mm, IPC Low Density)
pins: 1 D2 (in) "Parallel data input", 2 D3 (in) "Parallel data input", 3 D4 (in) "Parallel data input", 4 D5 (in) "Parallel data input", 5 D6 (in) "Parallel data input", 6 D7 (in) "Parallel data input", 7 D8 (in) "Parallel data input", 8 D9 (in) "Parallel data input", 9 D10 (in) "Parallel data input", 10 D11 (MSB) (in) "Parallel data input", 11 VDD (power) "Positive power supply", 12 REFIN (in) "Voltage reference input", 13 OUT (out) "Analog output", 14 GND (power) "Ground", 15 ~{PD} (in) "When low, disables all buffer amplifier voltages to reduce supply current", 16 ~{LDAC} (in) "Load DAC", 17 ~{WE} (in) "Write enable", 18 ~{CS} (in) "Chip select", 19 D0 (LSB) (in) "Parallel data input", 20 D1 (in) "Parallel data input"

## TLV5619CPWRG4
designator U?
12-Bit, Single Channel DAC, Parallel, Voltage Out, Low Power, Asynchronous Update, 0 to 70 degC, 20-pin SOP (PW20), Green (RoHS & no Sb/Br); Manufacturer: Texas Instruments; PartNumber: TLV5619CPWRG4; DAC Channels: 1; INL(Max)(+/-LSB): 4; Power Consumption(Typ)(mW): 4.3; Resolution(Bits): 12; SFDR(dB): 72; SNR(dB): 78; SubFamily: Precision DAC (=<10MSPS); DatasheetVersion: SLAS172F; PackageVersion: 4040064-5/G, 02/2011; PackageReference: PW20; PackageDescription: 20-Pin Plastic Small Outline, Body 6.5 x 4.4 mm, Pitch 0.65 mm; Supplier 1: Digi-Key; Supplier Part Number 1: TLV5619CPWRG4-ND; Supplier 2: Mouser; Supplier Part Number 2: 595-TLV5619CPWRG4; DNL(Max)(+/-LSB): 1; Eco-Plan: Green (RoHS & no Sb/Br); Interface: Parallel; Settling Time(us): 1; Mounting Technology: Surface Mount; Code_JEDEC: MO-153; ComponentLink1Description: Manufacturer URL; ComponentLink1URL: http://www.ti.com/; ComponentLink2Description: Datasheet; ComponentLink2URL: http://www.ti.com/general/docs/lit/getliterature.tsp?genericPartNumber=TLV5619&fileType=pdf; ComponentLink3Description: Package Specification; ComponentLink3URL: http://www.ti.com.cn/cn/lit/ml/mpds362/mpds362.pdf
footprint TI-PW20_N (SOP, 20-Leads, Body 6.5x4.4mm, Pitch 0.65mm, IPC Medium Density)
footprint TI-PW20_L (SOP, 20-Leads, Body 6.5x4.4mm, Pitch 0.65mm, IPC High Density)
footprint TI-PW20_M (SOP, 20-Leads, Body 6.5x4.4mm, Pitch 0.65mm, IPC Low Density)
pins: 1 D2 (in) "Parallel data input", 2 D3 (in) "Parallel data input", 3 D4 (in) "Parallel data input", 4 D5 (in) "Parallel data input", 5 D6 (in) "Parallel data input", 6 D7 (in) "Parallel data input", 7 D8 (in) "Parallel data input", 8 D9 (in) "Parallel data input", 9 D10 (in) "Parallel data input", 10 D11 (MSB) (in) "Parallel data input", 11 VDD (power) "Positive power supply", 12 REFIN (in) "Voltage reference input", 13 OUT (out) "Analog output", 14 GND (power) "Ground", 15 ~{PD} (in) "When low, disables all buffer amplifier voltages to reduce supply current", 16 ~{LDAC} (in) "Load DAC", 17 ~{WE} (in) "Write enable", 18 ~{CS} (in) "Chip select", 19 D0 (LSB) (in) "Parallel data input", 20 D1 (in) "Parallel data input"

## TLV5619IDW
designator U?
12-Bit, Single Channel DAC, Parallel, Voltage Out, Low Power, Asynchronous Update, -40 to 85 degC, 20-pin SOIC (DW20), Green (RoHS & no Sb/Br); Manufacturer: Texas Instruments; PartNumber: TLV5619IDW; DAC Channels: 1; INL(Max)(+/-LSB): 4; Power Consumption(Typ)(mW): 4.3; Resolution(Bits): 12; SFDR(dB): 72; SNR(dB): 78; SubFamily: Precision DAC (=<10MSPS); DatasheetVersion: SLAS172F; PackageVersion: 4040000-4/G, 01/2011; PackageReference: DW20; PackageDescription: 20-Pin Plastic Small Outline, Body 12.8 x 7.5 mm, Pitch 1.27 mm; Supplier 1: Digi-Key; Supplier Part Number 1: 296-3045-5-ND; Supplier 2: Farnell; Supplier Part Number 2: 8455686; Supplier 3: Newark; Supplier Part Number 3: 38K8484; Supplier 4: Newark; Supplier Part Number 4: 76C8926; Supplier 5: Mouser; Supplier Part Number 5: 595-TLV5619IDW; DNL(Max)(+/-LSB): 1; Eco-Plan: Green (RoHS & no Sb/Br); Interface: Parallel; Settling Time(us): 1; Mounting Technology: Surface Mount; Code_JEDEC: MO-013; ComponentLink1Description: Manufacturer URL; ComponentLink1URL: http://www.ti.com/; ComponentLink2Description: Datasheet; ComponentLink2URL: http://www.ti.com/general/docs/lit/getliterature.tsp?genericPartNumber=TLV5619&fileType=pdf; ComponentLink3Description: Package Specification; ComponentLink3URL: http://www.ti.com/lit/ml/mpds173a/mpds173a.pdf
footprint TI-DW20_N (SOIC, 20-Leads, Body 12.8x7.5mm, Pitch 1.27mm, IPC Medium Density)
footprint TI-DW20_L (SOIC, 20-Leads, Body 12.8x7.5mm, Pitch 1.27mm, IPC High Density)
footprint TI-DW20_M (SOIC, 20-Leads, Body 12.8x7.5mm, Pitch 1.27mm, IPC Low Density)
pins: 1 D2 (in) "Parallel data input", 2 D3 (in) "Parallel data input", 3 D4 (in) "Parallel data input", 4 D5 (in) "Parallel data input", 5 D6 (in) "Parallel data input", 6 D7 (in) "Parallel data input", 7 D8 (in) "Parallel data input", 8 D9 (in) "Parallel data input", 9 D10 (in) "Parallel data input", 10 D11 (MSB) (in) "Parallel data input", 11 VDD (power) "Positive power supply", 12 REFIN (in) "Voltage reference input", 13 OUT (out) "Analog output", 14 GND (power) "Ground", 15 ~{PD} (in) "When low, disables all buffer amplifier voltages to reduce supply current", 16 ~{LDAC} (in) "Load DAC", 17 ~{WE} (in) "Write enable", 18 ~{CS} (in) "Chip select", 19 D0 (LSB) (in) "Parallel data input", 20 D1 (in) "Parallel data input"

## TLV5619IDWG4
designator U?
12-Bit, Single Channel DAC, Parallel, Voltage Out, Low Power, Asynchronous Update, -40 to 85 degC, 20-pin SOIC (DW20), Green (RoHS & no Sb/Br); Manufacturer: Texas Instruments; PartNumber: TLV5619IDWG4; DAC Channels: 1; INL(Max)(+/-LSB): 4; Power Consumption(Typ)(mW): 4.3; Resolution(Bits): 12; SFDR(dB): 72; SNR(dB): 78; SubFamily: Precision DAC (=<10MSPS); DatasheetVersion: SLAS172F; PackageVersion: 4040000-4/G, 01/2011; PackageReference: DW20; PackageDescription: 20-Pin Plastic Small Outline, Body 12.8 x 7.5 mm, Pitch 1.27 mm; Supplier 1: Digi-Key; Supplier Part Number 1: TLV5619IDWG4-ND; Supplier 2: Mouser; Supplier Part Number 2: 595-TLV5619IDWG4; DNL(Max)(+/-LSB): 1; Eco-Plan: Green (RoHS & no Sb/Br); Interface: Parallel; Settling Time(us): 1; Mounting Technology: Surface Mount; Code_JEDEC: MO-013; ComponentLink1Description: Manufacturer URL; ComponentLink1URL: http://www.ti.com/; ComponentLink2Description: Datasheet; ComponentLink2URL: http://www.ti.com/general/docs/lit/getliterature.tsp?genericPartNumber=TLV5619&fileType=pdf; ComponentLink3Description: Package Specification; ComponentLink3URL: http://www.ti.com/lit/ml/mpds173a/mpds173a.pdf
footprint TI-DW20_N (SOIC, 20-Leads, Body 12.8x7.5mm, Pitch 1.27mm, IPC Medium Density)
footprint TI-DW20_L (SOIC, 20-Leads, Body 12.8x7.5mm, Pitch 1.27mm, IPC High Density)
footprint TI-DW20_M (SOIC, 20-Leads, Body 12.8x7.5mm, Pitch 1.27mm, IPC Low Density)
pins: 1 D2 (in) "Parallel data input", 2 D3 (in) "Parallel data input", 3 D4 (in) "Parallel data input", 4 D5 (in) "Parallel data input", 5 D6 (in) "Parallel data input", 6 D7 (in) "Parallel data input", 7 D8 (in) "Parallel data input", 8 D9 (in) "Parallel data input", 9 D10 (in) "Parallel data input", 10 D11 (MSB) (in) "Parallel data input", 11 VDD (power) "Positive power supply", 12 REFIN (in) "Voltage reference input", 13 OUT (out) "Analog output", 14 GND (power) "Ground", 15 ~{PD} (in) "When low, disables all buffer amplifier voltages to reduce supply current", 16 ~{LDAC} (in) "Load DAC", 17 ~{WE} (in) "Write enable", 18 ~{CS} (in) "Chip select", 19 D0 (LSB) (in) "Parallel data input", 20 D1 (in) "Parallel data input"

## TLV5619IDWR
designator U?
12-Bit, Single Channel DAC, Parallel, Voltage Out, Low Power, Asynchronous Update, -40 to 85 degC, 20-pin SOIC (DW20), Green (RoHS & no Sb/Br); Manufacturer: Texas Instruments; PartNumber: TLV5619IDWR; DAC Channels: 1; INL(Max)(+/-LSB): 4; Power Consumption(Typ)(mW): 4.3; Resolution(Bits): 12; SFDR(dB): 72; SNR(dB): 78; SubFamily: Precision DAC (=<10MSPS); DatasheetVersion: SLAS172F; PackageVersion: 4040000-4/G, 01/2011; PackageReference: DW20; PackageDescription: 20-Pin Plastic Small Outline, Body 12.8 x 7.5 mm, Pitch 1.27 mm; Supplier 1: Digi-Key; Supplier Part Number 1: TLV5619IDWR-ND; Supplier 2: Mouser; Supplier Part Number 2: 595-TLV5619IDWR; DNL(Max)(+/-LSB): 1; Eco-Plan: Green (RoHS & no Sb/Br); Interface: Parallel; Settling Time(us): 1; Mounting Technology: Surface Mount; Code_JEDEC: MO-013; ComponentLink1Description: Manufacturer URL; ComponentLink1URL: http://www.ti.com/; ComponentLink2Description: Datasheet; ComponentLink2URL: http://www.ti.com/general/docs/lit/getliterature.tsp?genericPartNumber=TLV5619&fileType=pdf; ComponentLink3Description: Package Specification; ComponentLink3URL: http://www.ti.com/lit/ml/mpds173a/mpds173a.pdf
footprint TI-DW20_N (SOIC, 20-Leads, Body 12.8x7.5mm, Pitch 1.27mm, IPC Medium Density)
footprint TI-DW20_L (SOIC, 20-Leads, Body 12.8x7.5mm, Pitch 1.27mm, IPC High Density)
footprint TI-DW20_M (SOIC, 20-Leads, Body 12.8x7.5mm, Pitch 1.27mm, IPC Low Density)
pins: 1 D2 (in) "Parallel data input", 2 D3 (in) "Parallel data input", 3 D4 (in) "Parallel data input", 4 D5 (in) "Parallel data input", 5 D6 (in) "Parallel data input", 6 D7 (in) "Parallel data input", 7 D8 (in) "Parallel data input", 8 D9 (in) "Parallel data input", 9 D10 (in) "Parallel data input", 10 D11 (MSB) (in) "Parallel data input", 11 VDD (power) "Positive power supply", 12 REFIN (in) "Voltage reference input", 13 OUT (out) "Analog output", 14 GND (power) "Ground", 15 ~{PD} (in) "When low, disables all buffer amplifier voltages to reduce supply current", 16 ~{LDAC} (in) "Load DAC", 17 ~{WE} (in) "Write enable", 18 ~{CS} (in) "Chip select", 19 D0 (LSB) (in) "Parallel data input", 20 D1 (in) "Parallel data input"

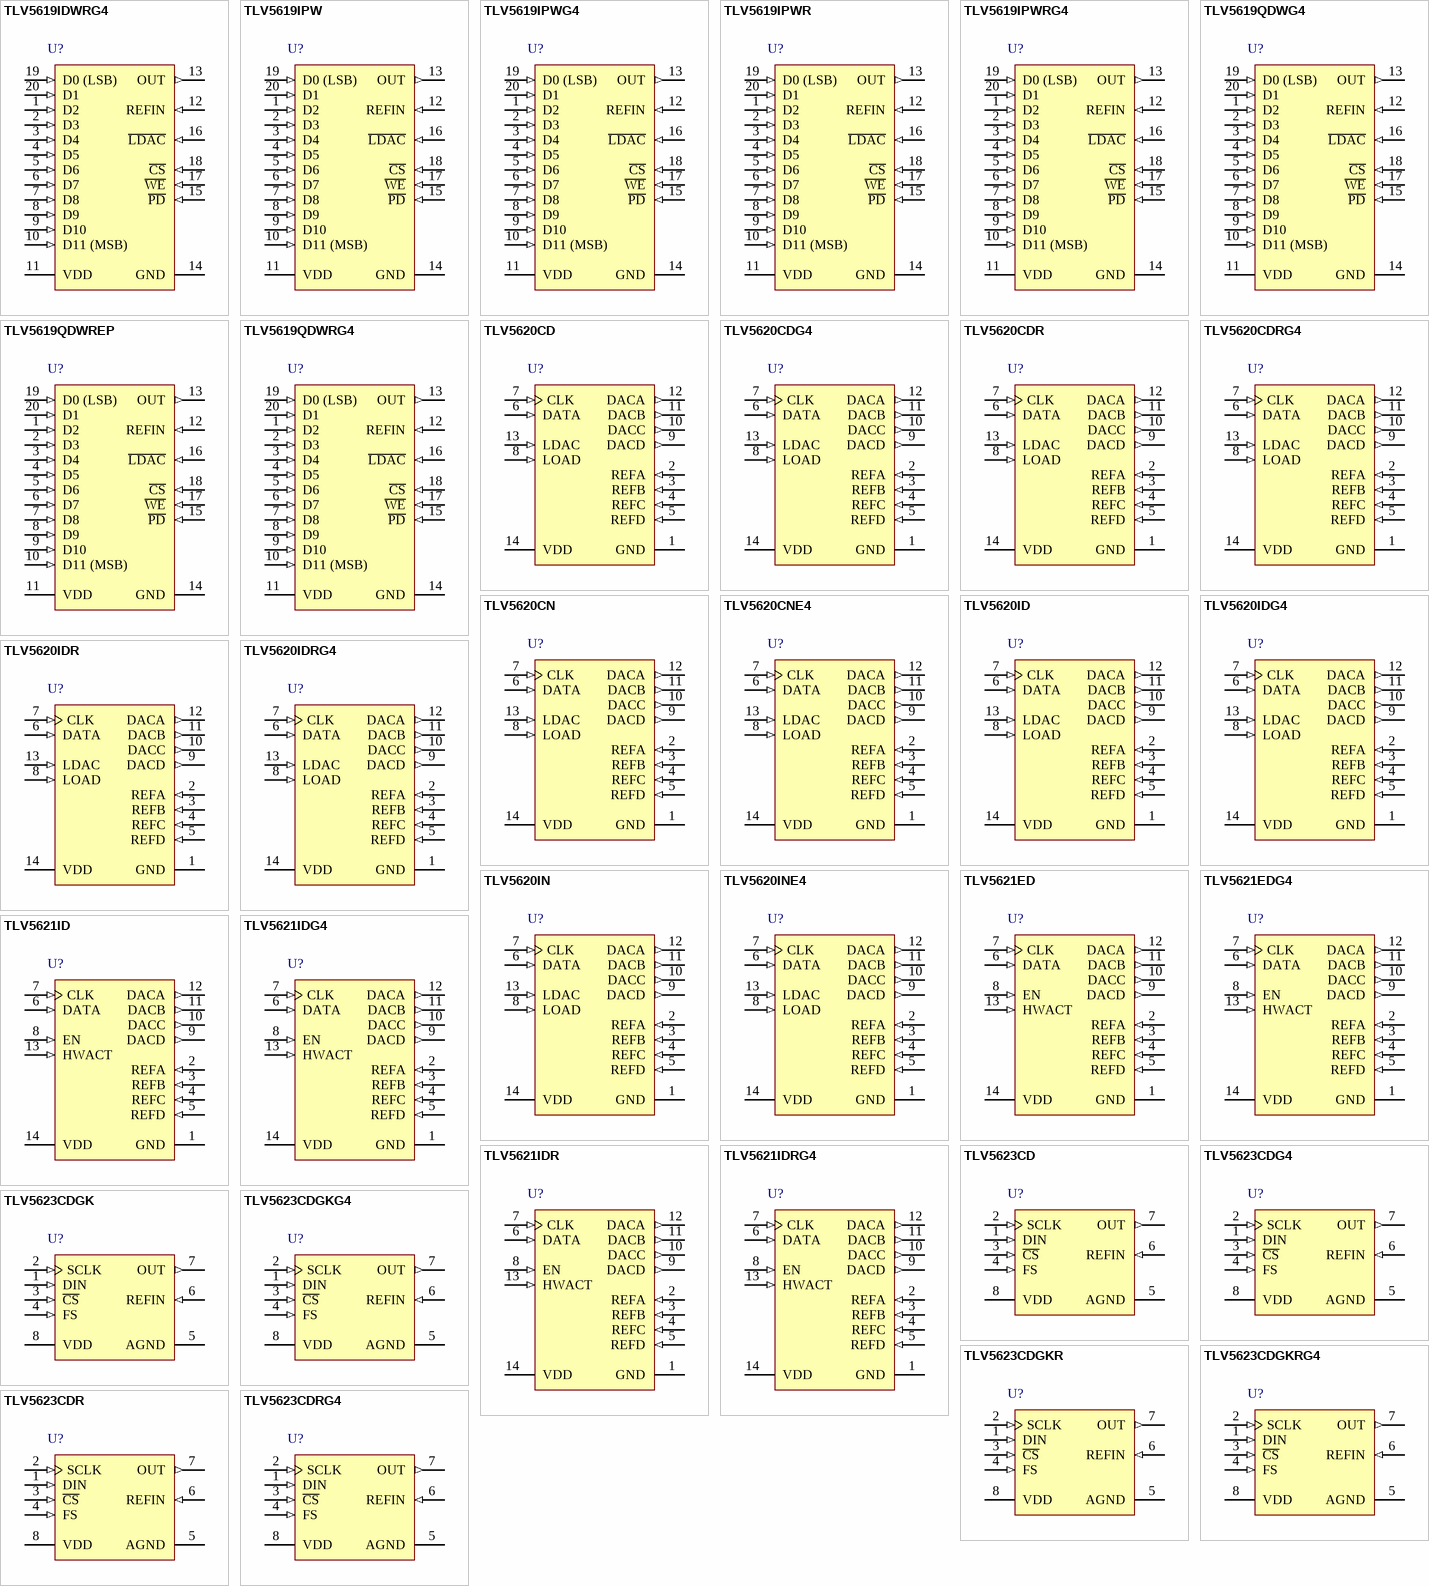
[diagram p66: symbols TLV5619IDWRG4 to TLV5623CDRG4]